# EAGLE library part USB1100-30-A (library Connectors)
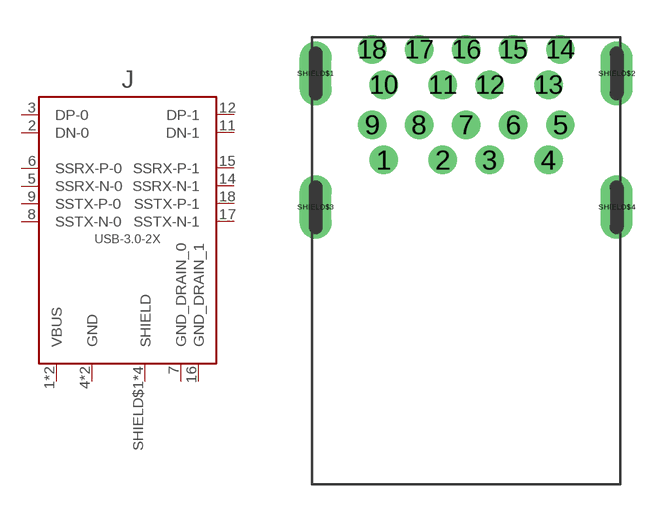
[diagram p13: symbol with the pads of USB1100-30-A; footprint USB1100-30-A]

Designator prefix J

## USB1100-30-A (MFG: GCT; MPN: USB1100-30-A)  [USB1100-30-A]
1  VBUS
2  DN-0
3  DP-0
4  GND
5  SSRX-N-0
6  SSRX-P-0
7  GND_DRAIN_0
8  SSTX-N-0
9  SSTX-P-0
10  VBUS
11  DN-1
12  DP-1
13  GND
14  SSRX-N-1
15  SSRX-P-1
16  GND_DRAIN_1
17  SSTX-N-1
18  SSTX-P-1
SHIELD$1  SHIELD
SHIELD$2  SHIELD
SHIELD$3  SHIELD
SHIELD$4  SHIELD

## Footprint USB1100-30-A (pad centres in mm)
drill 0.7: 1 -3.5,4.28; 2 -1,4.28; 3 1,4.28; 4 3.5,4.28; 5 4,5.78; 6 2,5.78; 7 0,5.78; 8 -2,5.78; 9 -4,5.78; 10 -3.5,7.48; 11 -1,7.48; 12 1,7.48; 13 3.5,7.48; 14 4,8.98; 15 2,8.98; 16 0,8.98; 17 -2,8.98; 18 -4,8.98
drill 0.1 pad 1.35 long: SHIELD$1 -6.4,7.96; SHIELD$2 6.4,7.96; SHIELD$3 -6.4,2.28; SHIELD$4 6.4,2.28